# EAGLE library part 6CM7 (library wheat)
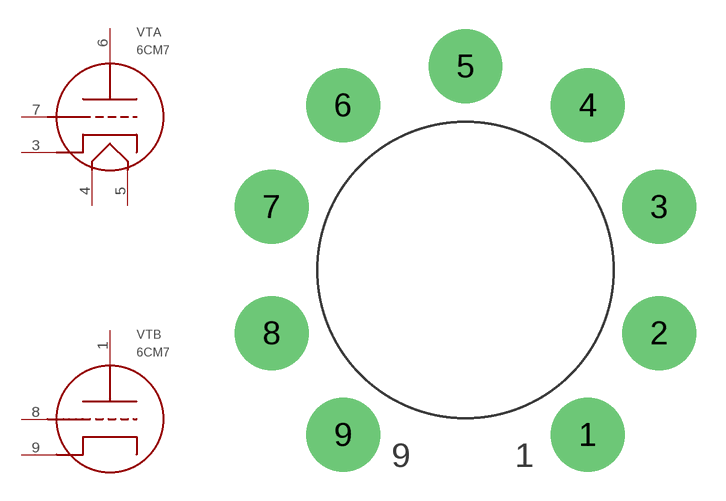
[diagram p274: symbol with the pads of NOVAL_PCB; footprint NOVAL_PCB]

Designator prefix VT; gates A=TRIODE_8A B=TRIODE_8B

## 6CM7  [NOVAL_PCB]
1  B:2A  pas
3  A:1K  pas
4  A:F1  pas
5  A:F2  pas
6  A:1A  pas
7  A:1G  pas
8  B:2G  pas
9  B:2K  pas

## Footprint NOVAL_PCB (pad centres in mm)
TUBE SOCKET, NOVAL PCB
drill 1.93 pad 3.81: 1 6.299,-8.484; 2 9.982,-3.251; 3 9.982,3.251; 4 6.299,8.484; 5 0,10.49; 6 -6.299,8.484; 7 -9.982,3.251; 8 -9.982,-3.251; 9 -6.299,-8.484